# EAGLE library part LM386 (library Communica)
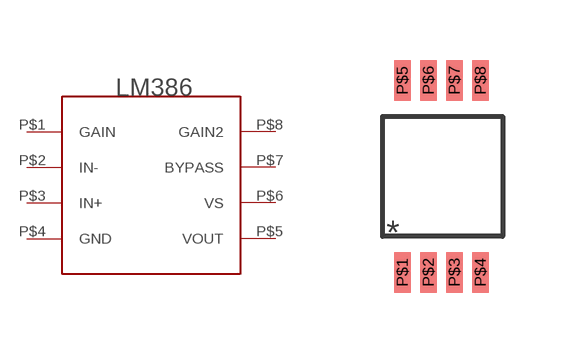
[diagram p0: symbol with the pads of LM386; footprint LM386]

Designator prefix -

## LM386  [LM386]
P$1  GAIN
P$2  IN-
P$3  IN+
P$4  GND
P$5  VOUT
P$6  VS
P$7  BYPASS
P$8  GAIN2

## Footprint LM386 (pad centres in mm)
smd 0.41 x 1.02: P$1 0,0; P$2 0.65,0; P$3 1.3,0; P$4 1.95,0; P$5 0,4.8; P$6 0.65,4.8; P$7 1.3,4.8; P$8 1.95,4.8